# Altium integrated library EEUFC2A101L.IntLib: 1 symbol
Pins are listed as number, name and electrical type; pins without a type are passive.

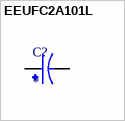
[diagram p0: symbol EEUFC2A101L]

## EEUFC2A101L
designator C?
Cap Aluminum 100uF 100V 20% (10 X 30mm) Radial 5mm 698mA 3000 hr 105C Bulk; MF: Panasonic; MP: EEU-FC2A101L; Check_prices: https://www.snapeda.com/parts/EEU-FC2A101L/Panasonic/view-part/?ref=eda; Availability: In Stock; Price: None; Package: RADIAL-2 Panasonic; Value: *; Purchase-URL: https://pricing.snapeda.com/search/part/EEU-FC2A101L/?ref=eda; SnapEDA_Link: https://www.snapeda.com/parts/EEU-FC2A101L/Panasonic/view-part/?ref=snap
footprint CAPPRD500W60D1000H3000
pins: N, P